# Altium schematic symbol library HMC5883L.SchLib: 1 symbol
Pins are listed as number, name and electrical type; pins without a type are passive.

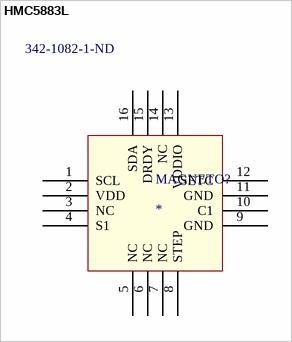
[diagram p0: symbol HMC5883L]

## HMC5883L
designator MAGNETO?  Supplier Part Number 1: 342-1082-1-ND
Supplier 1: Digi-Key
footprint HMC5883L
footprint HMC5883L
pins: 1 SCL, 2 VDD, 3 NC, 4 S1, 5 NC, 6 NC, 7 NC, 8 STEP, 9 GND, 10 C1, 11 GND, 12 SETC, 13 VDDIO, 14 NC, 15 DRDY, 16 SDA